# EAGLE library part WE-UNIT_E16/7/4_SCH2 (library WE-UNIT)
WE-UNIT Off-Line Transformer Characteristics Nominal input voltage: 125–375 VDC (85–265 VAC) Output power 3 W and 9 W Operating temperature: –40 °C to +125 °C Clearance and creepage distance 6 mm min. Insulation test voltage: 4 kVAC, 1 Minute Design compliant to EN 61558-2-16: reinforced insulation; except 749 118 10 xx: Basic insulation Applications Designed for Tiny Switch ICs from Power Integration and NCP101x or 105x of ON Semiconductor For SMPS with universal input from 85 VAC up to 265 VAC The "Value"shown for the Symbol and Packaging is Output Voltage1 Output Current1 <https://katalog.we-online.com/media/images/v2/o14888v209%20Family_WE-Unit_off-line_transformer.jpg> Details see: https://katalog.we-online.com/en/pbs/WE-UNIT#vs_ct:1 Updated by Yingchun,Shan 2019-08-26 2019(C) Wurth Elektronik
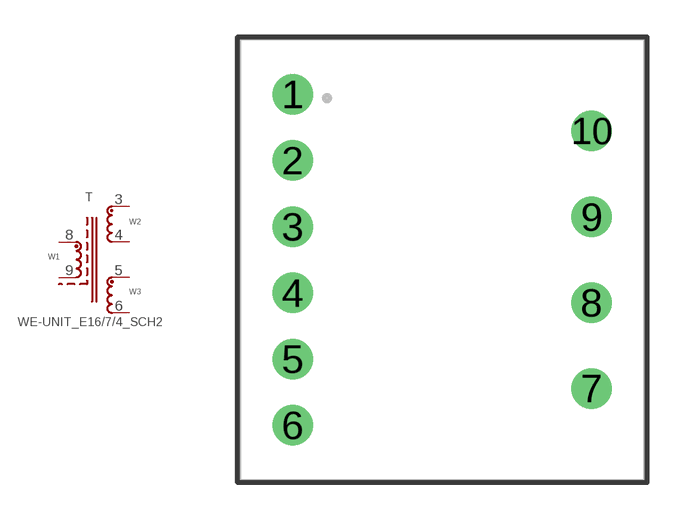
[diagram p1: symbol with the pads of WE-UNIT_E16/7/4; footprint WE-UNIT_E16/7/4]

Designator prefix T

## WE-UNIT_E16/7/4_SCH2_7491182012 (DATASHEET-URL: https://katalog.we-online.com/pbs/datasheet/7491182012.pdf; FSWITCH: 132kHz; IO2: 0.35A; ISAT: 0.8A; L: 0.9mH; LSMIN: 145uH; N: 9.5:1:1; PART-NUMBER: 7491182012; RDC1: 4.3Ohm; RDC2: 75mOhm; RDC3: 85mOhm; VALUE: 12V 0.35A; VI: 85-265V(AC); VO2: 12V), WE-UNIT_E16/7/4_SCH2_749118205 (DATASHEET-URL: https://katalog.we-online.com/pbs/datasheet/749118205.pdf; FSWITCH: 132kHz; IO2: 0.9A; ISAT: 0.85A; L: 0.9mH; LSMIN: 175uH; N: 19:1:1; PART-NUMBER: 749118205; RDC1: 4.3Ohm; RDC2: 26mOhm; RDC3: 26mOhm; VALUE: 5V 0.9A; VI: 85-265V(AC); VO2: 5V)  [WE-UNIT_E16/7/4]
3  6  pas
4  5  pas
5  4  pas
6  3  pas
8  1  pas
9  2  pas

## Footprint WE-UNIT_E16/7/4 (pad centres in mm)
WE-UNIT Off-Line Transformer Size E16/7/4 THT 10 Pin
drill 1.1: 1 -6.1,6.75; 2 -6.1,4.05; 3 -6.1,1.35; 4 -6.1,-1.35; 5 -6.1,-4.05; 6 -6.1,-6.75; 7 6.1,-5.25; 8 6.1,-1.75; 9 6.1,1.75; 10 6.1,5.25